# Altium footprint library scatbasic.PcbLib: 33 footprints (part 2 of 3)
Each footprint in its own frame and in the unit in brackets; x right, y up, seen from the top. Pads: shape width x height; smd on the part's side, far side on the other; paste and mask are expansions set on the pad; w line width, h text height; cw(c..) or ccw(c..) is an arc to the next point about the centre after c.
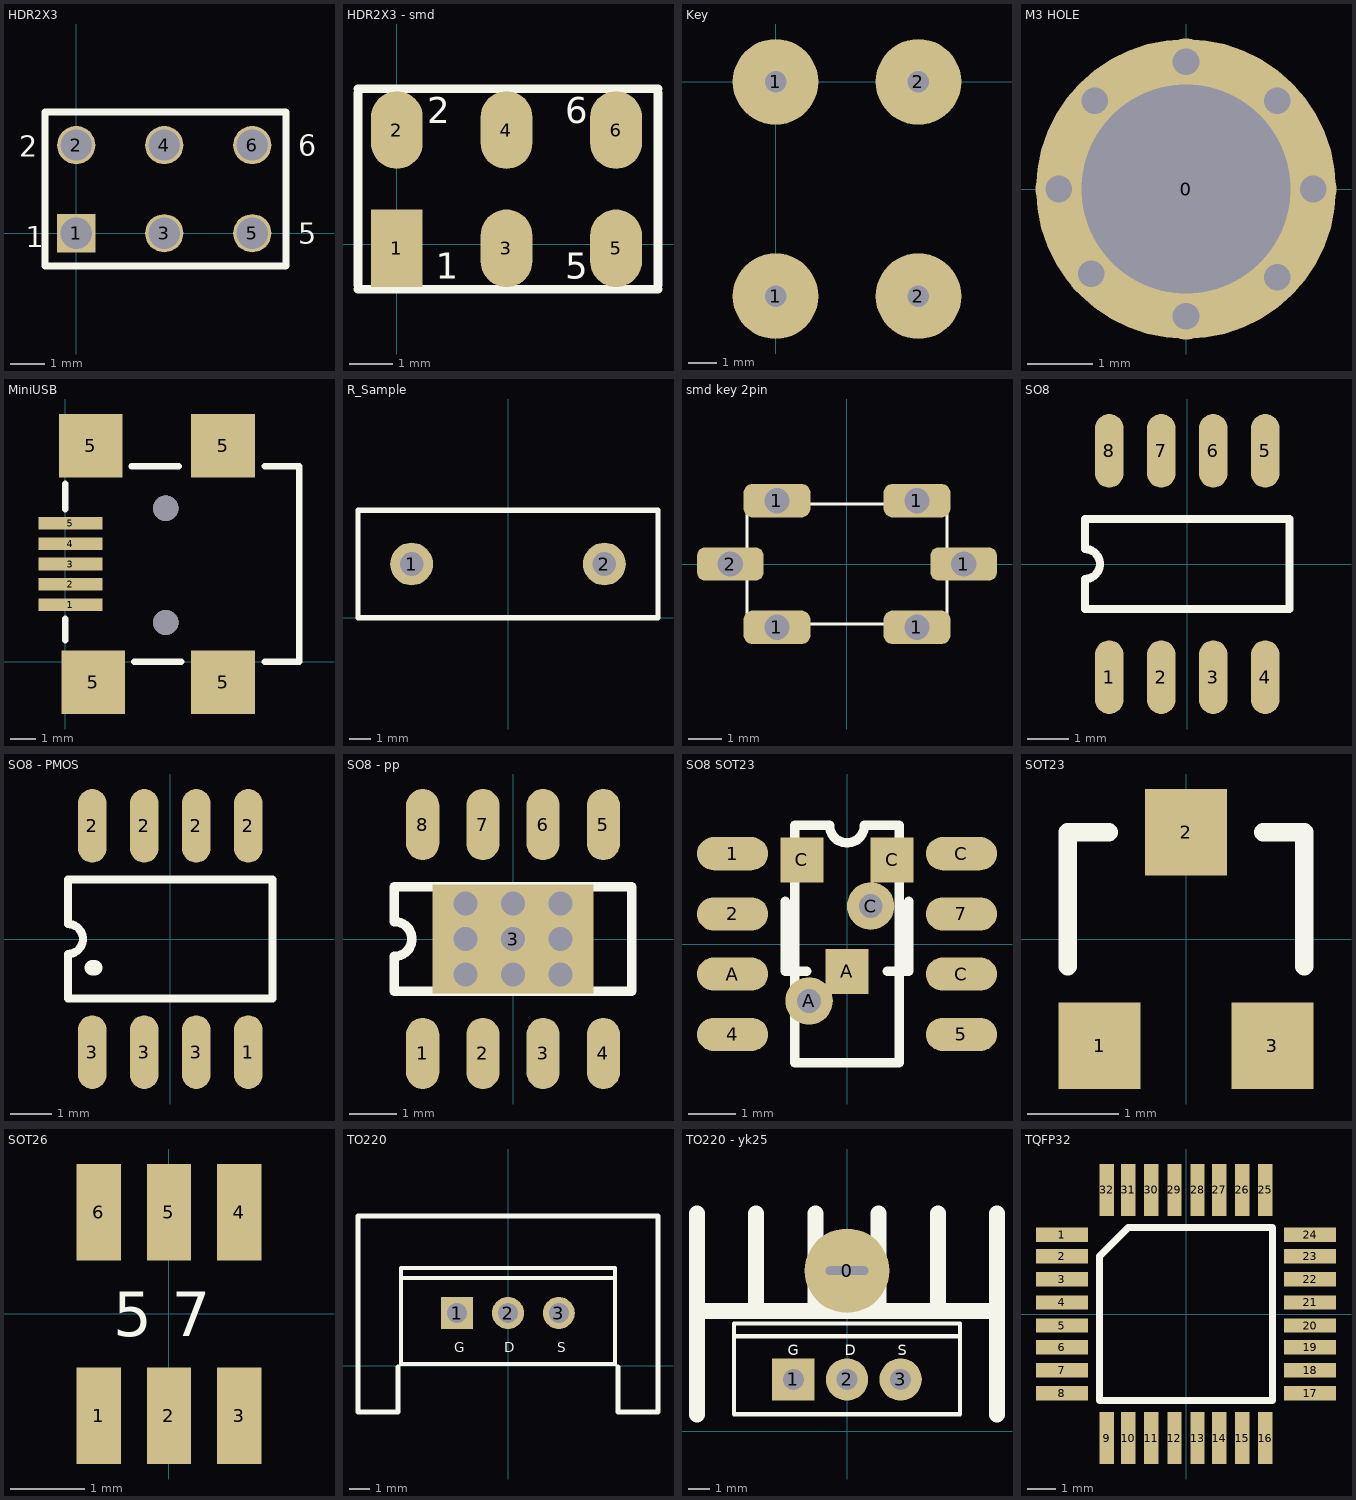
[diagram p1: the footprints below, top view; thin cyan lines are the x and y axes]

## HDR2X3 [mm] "Connector; Header; 3x2 Position"
pads (6):
  rect 1.1x1.1 hole 0.9: 1(0,0)
  round 1.1 hole 0.9: 2(0,2.54) 3(2.54,0) 4(2.54,2.54) 5(5.08,0) 6(5.08,2.54)
Top Overlay:
  lines w0.2: -0.9,-0.95 -0.9,3.5 6.05,3.5 6.05,-0.95 -0.9,-0.95
  text "6" at 6.404,2.232 h0.6
  text "5" at 6.404,-0.308 h0.6
  text "2" at -1.65,2.2 h0.6
  text "1" at -1.45,-0.4 h0.6

## HDR2X3 - smd [mm] "Connector; Header; 3x2 Position"
pads (6):
  rect 1.2x1.8 smd: 1(0,-0.1)
  oval 1.2x1.8 smd: 2(0,2.64) 3(2.54,-0.1) 4(2.54,2.64) 5(5.08,-0.1) 6(5.08,2.64)
Top Overlay:
  lines w0.2: -0.9,-1.05 6.05,-1.05 ; -0.9,-0.95 -0.9,3.5 ; -0.9,3.6 6.05,3.6 ; 6.05,-0.95 6.05,3.5
  text "1" at 0.9,-0.8 h0.6
  text "2" at 0.7,2.8 h0.6
  text "5" at 3.9,-0.8 h0.6
  text "6" at 3.9,2.8 h0.6

## Key [mil]
pads (4):
  round 120 hole 30: 1(0,-300) 1(0,0) 2(200,-300) 2(200,0)

## M3 HOLE [mm]
pads (1):
  round 4.6 hole 3.2: 0(0,0)
via 1.4,-1.35 diameter 0.711 hole 0.406
via -1.45,-1.3 diameter 0.711 hole 0.406
via -1.4,1.35 diameter 0.711 hole 0.406
via 1.4,1.35 diameter 0.711 hole 0.406
via 0,1.95 diameter 0.711 hole 0.406
via -1.95,0 diameter 0.711 hole 0.406
via 0,-1.95 diameter 0.711 hole 0.406
via 1.95,0 diameter 0.711 hole 0.406
Top Overlay:
  lines w0.203: -1,-1 1,1 ; -1,1 1,-1

## MiniUSB [mm]
pads (9):
  rect 2.5x0.5 smd: 1(0.2,2.25) 2(0.2,3.05) 3(0.2,3.85) 4(0.2,4.65) 5(0.2,5.45)
  rect 2.5x2.5 smd: 5(1,8.5) 5(1.1,-0.8) 5(6.2,-0.8) 5(6.2,8.5)
via 3.95,6.05 diameter 1 hole 1
via 3.95,1.55 diameter 1 hole 1
Top Overlay:
  lines w0.254: 0,0.85 0,1.7 ; 0,6 0,7 ; 2.6,7.7 4.45,7.7 ; 2.7,0 4.55,0 ; 7.85,0 9.2,0 9.2,7.7 7.85,7.7

## R_Sample [mm]
pads (2):
  round 2 hole 1.1: 1(-4.5,2.5) 2(4.5,2.5)
Top Overlay:
  lines w0.254: -7,0 -7,5 7,5 7,0 -7,0

## smd key 2pin [mm]
pads (6):
  rrect50% 2x1 hole 0.762: 1(-2.1,-1.9) 1(-2.1,1.9) 1(2.1,-1.9) 1(2.1,1.9) 1(3.5,0) 2(-3.5,0)
Top Overlay:
  lines w0.1: -3,-1.8 -3,1.8 3,1.8 3,-1.8 -3,-1.8

## SO8 [mm]
pads (8):
  oval 0.7x1.8 smd: 1(-1.905,-2.763) 2(-0.635,-2.763) 3(0.635,-2.763) 4(1.905,-2.763) 5(1.905,2.763) 6(0.635,2.763) 7(-0.635,2.763) 8(-1.905,2.763)
Top Overlay:
  lines w0.2: -2.5,-1.1 2.5,-1.1 2.5,1.1 -2.5,1.1 -2.5,0.367 cw(c-2.5,0) -2.5,-0.367 -2.5,-1.1

## SO8 - PMOS [mm]
pads (8):
  oval 0.7x1.8 smd: 1(1.905,-2.763) 2(-1.905,2.763) 2(-0.635,2.763) 2(0.635,2.763) 2(1.905,2.763) 3(-1.905,-2.763) 3(-0.635,-2.763) 3(0.635,-2.763)
Top Overlay:
  lines w0.2: -2.5,-1.45 2.5,-1.45 2.5,1.45 -2.5,1.45 -2.5,0.367 cw(c-2.5,0) -2.5,-0.367 -2.5,-1.45
  lines w0.381: -1.9,-0.7 -1.85,-0.7

## SO8 - pp [mm]
pads (9):
  oval 0.7x1.5 smd: 1(-1.905,-2.413) 2(-0.635,-2.413) 3(0.635,-2.413) 4(1.905,-2.413) 5(1.905,2.413) 6(0.635,2.413) 7(-0.635,2.413) 8(-1.905,2.413)
  rect 3.4x2.3 hole 0.508: 3(0,0)
via 1,-0.75 diameter 0.533 hole 0.508
via 0,-0.75 diameter 0.533 hole 0.508
via -1,-0.75 diameter 0.533 hole 0.508
via -1,0 diameter 0.533 hole 0.508
via -1,0.75 diameter 0.533 hole 0.508
via 1,0.75 diameter 0.533 hole 0.508
via 1,0 diameter 0.533 hole 0.508
via 0,0.75 diameter 0.533 hole 0.508
Top Overlay:
  lines w0.2: -2.5,-1.1 2.5,-1.1 2.5,1.1 -2.5,1.1 -2.5,0.367 cw(c-2.5,0) -2.5,-0.367 -2.5,-1.1

## SO8 SOT23 [mm]
pads (13):
  oval 1.5x0.7 smd: 1(-2.413,1.905) 2(-2.413,0.635) 4(-2.413,-1.905) 5(2.413,-1.905) 7(2.413,0.635) A(-2.413,-0.635) C(2.413,-0.635) C(2.413,1.905)
  round 1 hole 0.5: A(-0.8,-1.2) C(0.5,0.8)
  rect 0.9x0.95 smd: A(0,-0.575) C(-0.95,1.775) C(0.95,1.775)
Top Overlay:
  lines w0.2: -1.3,0.9 -1.3,-0.575 -0.85,-0.575 ; 0.85,-0.575 1.3,-0.575 1.3,0.9 ; -1.1,-2.5 1.1,-2.5 1.1,2.5 0.367,2.5 cw(c0,2.5) -0.367,2.5 -1.1,2.5 -1.1,-2.5

## SOT23 [mm] "SOT-23; 3 Leads; Body 3.1 x 2.5 mm, inc. leads (LxW max), Alternate Lead Configuration"
height 1.1
pads (3):
  rect 0.9x0.95 smd: 1(-0.95,-1.175) 2(0,1.175) 3(0.95,-1.175)
Top Overlay:
  lines w0.2: -1.3,-0.3 -1.3,1.175 -0.85,1.175 ; 0.85,1.175 1.3,1.175 1.3,-0.3

## SOT26 [mm]
height 1.1
pads (6):
  rect 0.6x1.3 smd: 1(-0.95,-1.375) 2(0,-1.375) 3(0.95,-1.375) 4(0.95,1.375) 5(0,1.375) 6(-0.95,1.375)
Top Overlay:
  text "5 7" at -0.75,-0.3 h0.6

## TO220 [mm]
pads (3):
  rect 1.6x1.6 hole 1: 1(-2.54,2.65)
  round 1.6 hole 1: 2(0,2.65) 3(2.54,2.65)
Top Overlay:
  lines w0.2: -5.35,4.4 5.35,4.4 ; -5.35,0.1 5.35,0.1 5.35,4.9 -5.35,4.9 -5.35,0.1
  lines w0.254: -5.5,-0.05 -5.5,-2.3 -7.5,-2.3 -7.5,7.5 0,7.5 7.5,7.5 7.5,-2.3 5.5,-2.3 5.5,-0.05
  text "G" at -2.7,0.7 h0.5
  text "D" at -0.2,0.7 h0.5
  text "S" at 2.45,0.7 h0.5

## TO220 - yk25 [mm]
pads (4):
  round 4 / inner round 4 / far side rrect50% 2.54x0.813 hole 0.406 slot 2.032 at 0 deg: 0(0,7.6)
  rect 2x2 hole 1: 1(-2.54,2.45)
  round 2 hole 1: 2(0,2.45) 3(2.54,2.45)
Top Overlay:
  lines w0.2: -5.25,4.5 5.3,4.5 ; -5.35,0.8 -5.35,5.1 5.35,5.1 5.35,0.8 -5.35,0.8
  lines w0.762: -7.1,0.8 -7.1,10.3 ; -7.1,5.7 7.1,5.7 ; -4.3,5.9 -4.3,10.3 ; -1.5,5.9 -1.5,10.3 ; 1.5,5.7 1.5,10.3 ; 4.3,5.7 4.3,10.3 ; 7.1,0.8 7.1,10.3
  text "S" at 2.4,3.6 h0.5
  text "D" at -0.1,3.6 h0.5
  text "G" at -2.8,3.6 h0.5

## TQFP32 [mm]
pads (32):
  rect 1.8x0.5 smd paste+0.15: 1(-4.3,2.75) 2(-4.3,2) 3(-4.3,1.2) 4(-4.3,0.4) 5(-4.3,-0.4) 6(-4.3,-1.15) 7(-4.3,-1.95) 8(-4.3,-2.75) 17(4.3,-2.75) 18(4.3,-1.95) 19(4.3,-1.15) 20(4.3,-0.4) 21(4.3,0.4) 22(4.3,1.2) 23(4.3,2) 24(4.3,2.75)
  rect 0.5x1.8 smd paste+0.15: 9(-2.75,-4.3) 10(-2,-4.3) 11(-1.2,-4.3) 12(-0.4,-4.3) 13(0.4,-4.3) 14(1.15,-4.3) 15(1.95,-4.3) 16(2.75,-4.3) 25(2.75,4.3) 26(1.95,4.3) 27(1.15,4.3) 28(0.4,4.3) 29(-0.4,4.3) 30(-1.2,4.3) 31(-2,4.3) 32(-2.75,4.3)
Top Overlay:
  lines w0.254: -3,-3 -3,2 -2,3 3,3 3,-3 -3,-3